# Altium footprint library JST_SM07B-NSHSS-TB_(LF)(SN).PcbLib: 1 footprints
Each footprint in its own frame and in the unit in brackets; x right, y up, seen from the top. Pads: shape width x height; smd on the part's side, far side on the other; paste and mask are expansions set on the pad; w line width, h text height; cw(c..) or ccw(c..) is an arc to the next point about the centre after c.
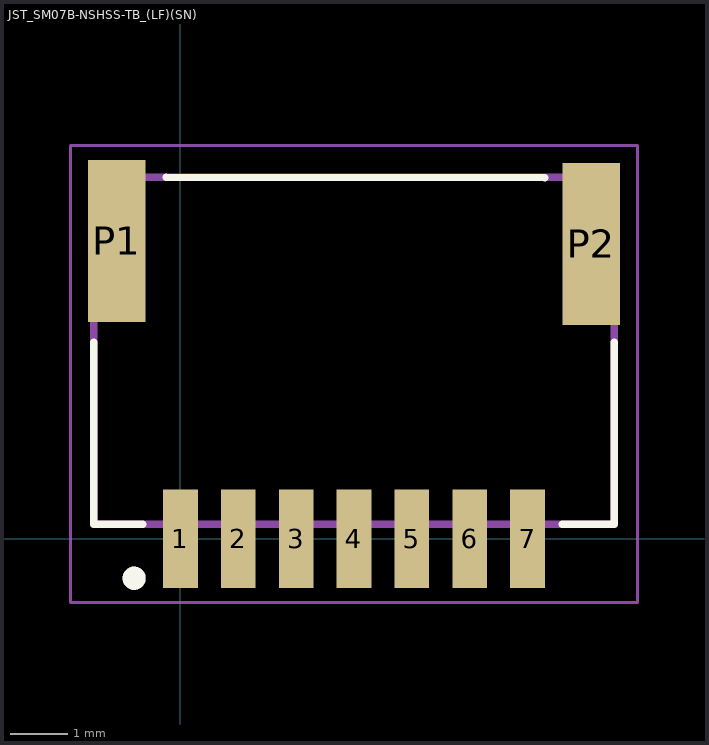
[diagram p0: the footprint, top view; thin cyan lines are the x and y axes]

## JST_SM07B-NSHSS-TB_(LF)(SN) [mm]
pads (9):
  rect 0.6x1.7 smd: 1(0,0) 2(1,0) 3(2,0) 4(3,0) 5(4,0) 6(5,0) 7(6,0)
  rect 1x2.8 smd: P1(-1.1,5.15) P2(7.1,5.1)
Top Overlay:
  circle w0.2: c-0.8,-0.681 r0.1
  lines w0.127: -1.5,3.4 -1.5,0.25 -0.65,0.25 ; -0.25,6.25 6.3,6.242 ; 6.6,0.25 7.5,0.25 7.5,3.4
Mechanical 13:
  circle w0.2: c-0.8,-0.681 r0.1
  lines w0.127: -1.5,0.25 -1.5,6.25 7.5,6.25 7.5,0.25 -1.5,0.25
Mechanical 15:
  lines w0.05: -1.9,-1.1 -1.9,6.8 7.9,6.8 7.9,-1.1 -1.9,-1.1
3D body "SM07B-NSHSS-TB.STEP": height 4.51, standoff 0.01, extent -1.5,-0.5 7.5,6.3